# Altium schematic symbol library Terra_Spray.SCHLIB: 22 symbols
Pins are listed as number, name and electrical type; pins without a type are passive.

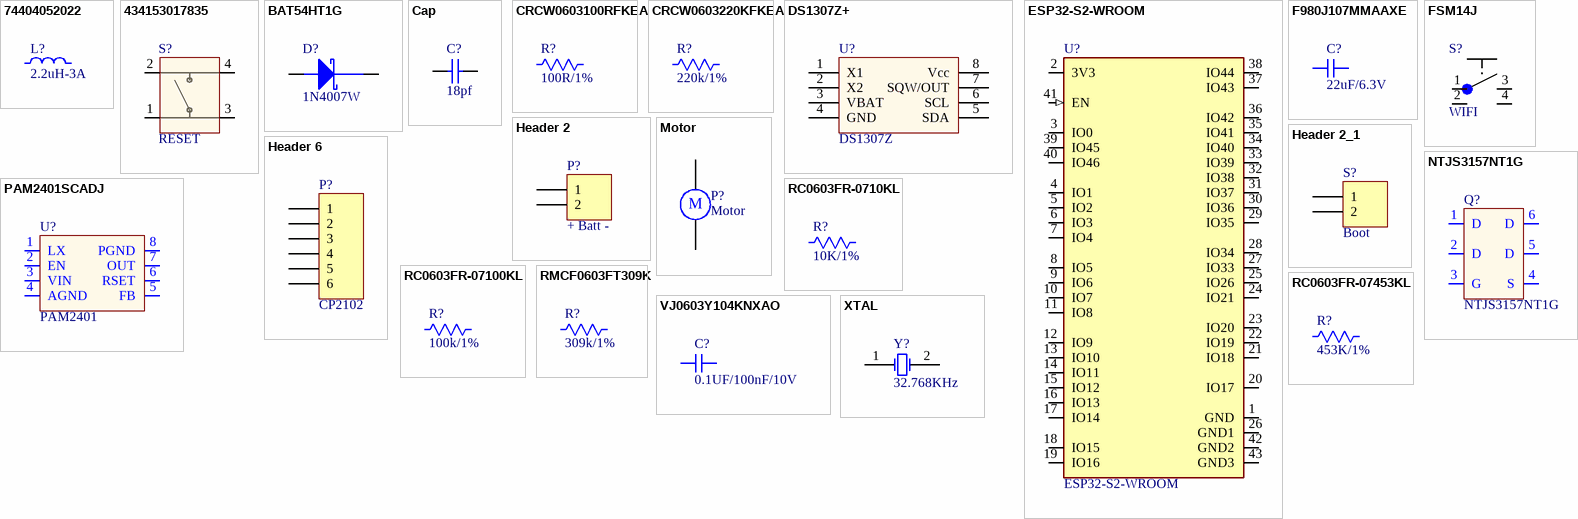
[diagram p0: symbols 74404052022 to XTAL]

## 74404052022
designator L?, comment value 2.2uH-3A  (hidden comment: Inductor)
WURTH ELEKTRONIK - 74404052022 - Power Inductor (SMD), 2.2 µH, 3 A, Semishielded, 3.6 A, WE-LQS Series, 5mm x 5mm x 2mm; Manufacturer 1: Wurth Electronics; Tolerance: 30%; Inductance: 2.2uH; Current Rating: 3A; Saturation Current: 3.6A; DC Resistance (DCR): 31.6mR; Self Resonant Frequency: 88MHz; Test Frequency: 100kHz; Supplier 1: Digi-Key; P/N: 74404052022; Stock 1: 1338; Pricing 1: 1=1.23000, 50=1.13100, 250=1.06400, 500=0.95200, 1000=0.78400 (USD); RoHS: Yes; Mount: Surface Mount; Case/Package: Nonstandard; Min Operating Temperature: -40°C; Max Operating Temperature: 125°C; Packaging: Tape and Reel; Resistor Type: Wirewound; Shielding: Shielded; Length: 0.197inch; Width: 0.197inch; Height - Seated (Max): 0.079inch; ComponentLink1URL: http://www.farnell.com/datasheets/2618696.pdf?src-supplier=Farnell; ComponentLink1Description: http://www.farnell.com/datasheets/2618696.pdf?src-supplier=Farnell; ComponentLink2URL: https://katalog.we-online.de/pbs/datasheet/74404052022.pdf?src-supplier=Digi-Key; ComponentLink2Description: https://katalog.we-online.de/pbs/datasheet/74404052022.pdf?src-supplier=Digi-Key; ComponentLink3URL: http://www.farnell.com/datasheets/2618696.pdf?src-supplier=Newark; ComponentLink3Description: http://www.farnell.com/datasheets/2618696.pdf?src-supplier=Newark; DigiKey: 732-7241-1-ND
footprint INDP5050X20N (Precision Wire Wound Inductor, 2-Leads, Body 5.00x5.00mm, IPC Medium Density)
pins: 1, 2

## 434153017835
designator S?, comment value RESET  (hidden comment: Button)
SWITCH TACTILE SPST-NO 0.05A 12V; Manufacturer: Wurth Electronics; P/N: 434153017835; Mechanical Life: 200000Cycles; Actuator Material: Polymer,Liquid Crystal Polymer; Throw Configuration: SPST; Illumination Type: Non-Illuminated; Operating Force: 350gf; Switch Function: Off-Mom; Switch Travel: 0.15mm; Supplier 1: Digi-Key; Stock 1: 48125; Pricing 1: 1=0.56000, 100=0.47150, 500=0.41400, 1000=0.33350 (USD); RoHS: Yes; Mount: Surface Mount; Contact Material: Steel; Min Operating Temperature: -40°C; Max Operating Temperature: 85°C; Packaging: Tape and Reel; ComponentLink1URL: https://datasheet.ciiva.com/52202/434153017835-52202871.pdf?src-supplier=Digi-Key; ComponentLink1Description: https://datasheet.ciiva.com/52202/434153017835-52202871.pdf?src-supplier=Digi-Key; DigiKey: 732-10143-1-ND
footprint 434153017835
pins: 1, 2, 3, 4

## BAT54HT1G
designator D?, comment 1N4007W
Rectifiers RECTIFIER DIODE 1A 1000V; Part No: CGRM4007-G; ComponentLink1URL: http://www.fairchildsemi.com/ds/BA/BAT54HT1G.pdf; ComponentLink1Description: http://www.fairchildsemi.com/ds/BA/BAT54HT1G.pdf
footprint SOD-123 (SODFL, 2-Leads, Body 1.70x3.70mm, IPC Medium Density)
pins: 1 Cathode, 2 Anode

## Cap
designator C?, comment value 18pf  (hidden comment: Ceramic capcitor)
Capacitor; P/N: 0603N180J500CT; Published: 8-Jun-2000; LatestRevisionDate: 17-Jul-2002; LatestRevisionNote: Re-released for DXP Platform.; PackageReference: RAD-0.3; Publisher: Altium Limited; PackageDescription: Radial Cap, Thru-Hole; 2 Leads; 0.3 in Pin Spacing
simulation model CAP (Capacitor)
signal-integrity model Cap
footprint CAP 0603
pins: 1, 2

## CRCW0603100RFKEA
designator R?, comment value 100R/1%  (hidden comment: Resistor)
RES SMD 100 OHM 1% 1/10W 0603; Manufacturer: Vishay Dale; P/N: CRCW0603100RFKEA; Power Rating: 100mW; Temperature Coefficient: 100ppm/°C; Voltage Rating: 75V; Resistance: 100R; Stock 1: 512087; Pricing 1: 1=0.10000, 10=0.03400, 100=0.01390, 1000=0.00623, 2500=0.00540 (USD); RoHS: Yes; Mount: Surface Mount; Number of Pins: 2; Weight: 7.1E-05oz; Case Code (Metric): 1608; Case Code (Imperial): 0603; Contact Plating: Tin; Min Operating Temperature: -55°C; Max Operating Temperature: 155°C; Composition: Thick Film; Tolerance: 1%; Packaging: Tape and Reel; Termination: SMD/SMT; Voltage Rating (DC): 75V; Military Standard: Not; Package Quantity: 10; Number of Terminations: 2; Max Power Dissipation: 100mW; Features: Automotive AEC-Q200; Length: 1.55mm; Height: 0.02inch; Width: 0.033inch; Depth: 0.85mm; Radiation Hardening: No; REACH SVHC: Unknown; Lead Free: Lead Free; ComponentLink1URL: https://datasheet.ciiva.com/16941/dcrcwe3-16941318.pdf?src-supplier=Avnet+Europe; ComponentLink1Description: https://datasheet.ciiva.com/16941/dcrcwe3-16941318.pdf?src-supplier=Avnet+Europe; ComponentLink2URL: https://datasheet.ciiva.com/26316/fld-crcw-e3-data-en-26316566.pdf?src-supplier=Distrelec; ComponentLink2Description: https://datasheet.ciiva.com/26316/fld-crcw-e3-data-en-26316566.pdf?src-supplier=Distrelec; ComponentLink3URL: https://datasheet.ciiva.com/2465/dcrcwe3-2465543.pdf?src-supplier=Digi-Key; ComponentLink3Description: https://datasheet.ciiva.com/2465/dcrcwe3-2465543.pdf?src-supplier=Digi-Key; ComponentLink4URL: https://datasheet.ciiva.com/2465/dcrcwe3-2465544.pdf?src-supplier=Digi-Key; ComponentLink4Description: https://datasheet.ciiva.com/2465/dcrcwe3-2465544.pdf?src-supplier=Digi-Key; ComponentLink5URL: https://datasheet.ciiva.com/2465/dcrcwe3-2465545.pdf?src-supplier=Digi-Key; ComponentLink5Description: https://datasheet.ciiva.com/2465/dcrcwe3-2465545.pdf?src-supplier=Digi-Key; ComponentLink6URL: https://datasheet.ciiva.com/22673/1697337-22673066.pdf?src-supplier=Element14; ComponentLink6Description: https://datasheet.ciiva.com/22673/1697337-22673066.pdf?src-supplier=Element14; ComponentLink7URL: https://datasheet.ciiva.com/16787/70201119-16787964.pdf?src-supplier=Allied+Electronics; ComponentLink7Description: https://datasheet.ciiva.com/16787/70201119-16787964.pdf?src-supplier=Allied+Electronics; ComponentLink8URL: https://datasheet.ciiva.com/5550/dcrcwe3-109170-5550286.pdf?src-supplier=Mouser; ComponentLink8Description: https://datasheet.ciiva.com/5550/dcrcwe3-109170-5550286.pdf?src-supplier=Mouser; ComponentLink9URL: https://datasheet.ciiva.com/16199/dcrcwe3-16199102.pdf?src-supplier=Future+Electronics; ComponentLink9Description: https://datasheet.ciiva.com/16199/dcrcwe3-16199102.pdf?src-supplier=Future+Electronics; ComponentLink10URL: https://datasheet.ciiva.com/16721/70201119-16721486.pdf?src-supplier=Allied+Electronics; ComponentLink10Description: https://datasheet.ciiva.com/16721/70201119-16721486.pdf?src-supplier=Allied+Electronics; ComponentLink11URL: https://datasheet.ciiva.com/22666/1720486-22666207.pdf?src-supplier=Element14; ComponentLink11Description: https://datasheet.ciiva.com/22666/1720486-22666207.pdf?src-supplier=Element14; Case/Package: 0603; DigiKey: 541-100HCT-ND
footprint RES 0603
pins: 1, 2

## CRCW0603220KFKEA
designator R?, comment value 220k/1%  (hidden comment: Resistor)
RES SMD 220 kohm, 0603, 100 mW,  1%, 75 V; Manufacturer: Vishay; P/N: CRCW0603220KFKEA; Temperature Coefficient: 100ppm/°C; Resistance: 220kR; Power Rating: 100mW; Voltage Rating: 75V; Supplier 1: Digi-Key; Stock 1: 12286; Pricing 1: 1=0.10000, 10=0.03400, 100=0.01390, 1000=0.00623, 2500=0.00540 (USD); RoHS: Yes; Case/Package: 0603; Weight: 7.1E-05oz; Case Code (Imperial): 0603; Case Code (Metric): 1608; Contact Plating: Tin; Min Operating Temperature: -55°C; Max Operating Temperature: 155°C; Tolerance: 1%; Packaging: Tape and Reel; Composition: Thick Film; Voltage Rating (DC): 75V; Termination: SMD/SMT; Package Quantity: 10; Number of Terminations: 2; Max Power Dissipation: 100mW; Military Standard: Not; Features: Automotive AEC-Q200; Length: 1.55mm; Height: 0.45mm; Width: 0.85mm; Depth: 0.85mm; Radiation Hardening: No; Lead Free: Lead Free; REACH SVHC: Unknown; ComponentLink1URL: https://datasheet.ciiva.com/11810/0900766b80d98afc-11810043.pdf?src-supplier=RSComponents; ComponentLink1Description: https://datasheet.ciiva.com/11810/0900766b80d98afc-11810043.pdf?src-supplier=RSComponents; ComponentLink2URL: https://datasheet.ciiva.com/16883/dcrcwe3-16883373.pdf?src-supplier=Avnet+Europe; ComponentLink2Description: https://datasheet.ciiva.com/16883/dcrcwe3-16883373.pdf?src-supplier=Avnet+Europe; ComponentLink3URL: https://datasheet.ciiva.com/3257/dcrcwe3-3257262.pdf?src-supplier=Avnet; ComponentLink3Description: https://datasheet.ciiva.com/3257/dcrcwe3-3257262.pdf?src-supplier=Avnet; ComponentLink4URL: https://datasheet.ciiva.com/7673/1697337-7673294.pdf?src-supplier=Element14; ComponentLink4Description: https://datasheet.ciiva.com/7673/1697337-7673294.pdf?src-supplier=Element14; ComponentLink5URL: https://datasheet.ciiva.com/22870/70201119-22870101.pdf?src-supplier=Allied+Electronics; ComponentLink5Description: https://datasheet.ciiva.com/22870/70201119-22870101.pdf?src-supplier=Allied+Electronics; ComponentLink6URL: https://datasheet.ciiva.com/26317/fld-crcw-e3-data-en-26317173.pdf?src-supplier=Distrelec; ComponentLink6Description: https://datasheet.ciiva.com/26317/fld-crcw-e3-data-en-26317173.pdf?src-supplier=Distrelec; ComponentLink7URL: https://datasheet.ciiva.com/5551/dcrcwe3-109170-5551287.pdf?src-supplier=Mouser; ComponentLink7Description: https://datasheet.ciiva.com/5551/dcrcwe3-109170-5551287.pdf?src-supplier=Mouser; ComponentLink8URL: https://datasheet.ciiva.com/16775/70201119-16775304.pdf?src-supplier=Allied+Electronics; ComponentLink8Description: https://datasheet.ciiva.com/16775/70201119-16775304.pdf?src-supplier=Allied+Electronics; ComponentLink9URL: https://datasheet.ciiva.com/2465/dcrcwe3-2465579.pdf?src-supplier=Digi-Key; ComponentLink9Description: https://datasheet.ciiva.com/2465/dcrcwe3-2465579.pdf?src-supplier=Digi-Key; ComponentLink10URL: https://datasheet.ciiva.com/2465/dcrcwe3-2465580.pdf?src-supplier=Digi-Key; ComponentLink10Description: https://datasheet.ciiva.com/2465/dcrcwe3-2465580.pdf?src-supplier=Digi-Key; ComponentLink11URL: https://datasheet.ciiva.com/2465/dcrcwe3-2465581.pdf?src-supplier=Digi-Key; ComponentLink11Description: https://datasheet.ciiva.com/2465/dcrcwe3-2465581.pdf?src-supplier=Digi-Key; DigiKey: 541-220KHCT-ND
footprint RES 0603
pins: 1, 2

## DS1307Z+
designator U?, comment value DS1307Z  (hidden comment: IC)
SERIAL TIME CHIP 8PIN, SOIC; Manufacturer 1: Maxim; P/N: DS1307Z+; Time Format: HH:MM:SS; Logic Function: Clock; Operating Supply Voltage: 5V; Memory Size: 56B; Max Supply Voltage: 5.5V; Min Supply Voltage: 4.5V; Interface: I2C,Serial,2-Wire; Date Format: YY-MM-DD; Number of Outputs: 1; Frequency: 32.768kHz; Memory Type: RAM; Operating Supply Current: 1.5mA; Supplier 1: Digi-Key; Stock 1: 492; Pricing 1: 1=3.82000, 10=3.43200, 25=3.24480, 100=2.81200, 250=2.66780, 500=2.39380, 1000=2.26500 (USD); RoHS: Yes; Mount: Surface Mount; Case/Package: SOIC; Number of Pins: 8; Contact Plating: Tin,Matte; Weight: 0.019048oz; Min Operating Temperature: 0°C; Max Operating Temperature: 70°C; Packaging: Rail/Tube; Package Quantity: 100; Series: DS1307Z; Voltage: 5V; Length: 5mm; Width: 4mm; Height: 1.5mm; Radiation Hardening: No; RoHS Compliant: Yes; Lead Free: Lead Free; REACH SVHC: No SVHC; ComponentLink1URL: https://datasheet.ciiva.com/20167/170004-da-en-01-20167204.pdf?src-supplier=Rapid+Electronics; ComponentLink1Description: https://datasheet.ciiva.com/20167/170004-da-en-01-20167204.pdf?src-supplier=Rapid+Electronics; ComponentLink2URL: https://datasheet.ciiva.com/1491/ds1307-1491905.pdf?src-supplier=Element14; ComponentLink2Description: https://datasheet.ciiva.com/1491/ds1307-1491905.pdf?src-supplier=Element14; ComponentLink3URL: https://datasheet.ciiva.com/1498/ds1307-1498866.pdf?src-supplier=Farnell; ComponentLink3Description: https://datasheet.ciiva.com/1498/ds1307-1498866.pdf?src-supplier=Farnell; ComponentLink4URL: https://datasheet.ciiva.com/1139/46359-1139142.pdf?src-supplier=Element14; ComponentLink4Description: https://datasheet.ciiva.com/1139/46359-1139142.pdf?src-supplier=Element14; ComponentLink5URL: https://datasheet.ciiva.com/14085/ds1307-14085608.pdf?src-supplier=Digi-Key; ComponentLink5Description: https://datasheet.ciiva.com/14085/ds1307-14085608.pdf?src-supplier=Digi-Key; ComponentLink6URL: https://datasheet.ciiva.com/3304/ds1307-3304457.pdf?src-supplier=Avnet; ComponentLink6Description: https://datasheet.ciiva.com/3304/ds1307-3304457.pdf?src-supplier=Avnet; ComponentLink7URL: https://datasheet.ciiva.com/14577/70127931-14577227.pdf?src-supplier=Allied+Electronics; ComponentLink7Description: https://datasheet.ciiva.com/14577/70127931-14577227.pdf?src-supplier=Allied+Electronics; DigiKey: DS1307Z+-ND
footprint SOIC-8 (SOIC, 8-Leads, Body 4.91x3.90mm, Pitch 1.27mm, IPC Medium Density)
pins: 1 X1, 2 X2, 3 VBAT, 4 GND, 5 SDA, 6 SCL, 7 SQW/OUT, 8 Vcc

## ESP32-S2-WROOM
designator U?, comment value ESP32-S2-WROOM  (hidden comment: ESP32s)
RX TXRX MOD WIFI SURFACE MOUNT; Manufacturer: Espressif Systems; Supplier 1: Digi-Key; P/N: ESP32-S2-WROOM; Stock 1: 899; Pricing 1: 1=1.99000 (USD); RoHS: No; DigiKey: 1965-ESP32-S2-WROOMCT-ND
footprint MODULE_ESP32-S2-WROOM
pins: 1 GND (power), 2 3V3 (power), 3 IO0 (io), 4 IO1 (io), 5 IO2 (io), 6 IO3 (io), 7 IO4 (io), 8 IO5 (io), 9 IO6 (io), 10 IO7 (io), 11 IO8 (io), 12 IO9 (io), 13 IO10 (io), 14 IO11 (io), 15 IO12 (io), 16 IO13 (io), 17 IO14 (io), 18 IO15 (io), 19 IO16 (io), 20 IO17 (io), 21 IO18 (io), 22 IO19 (io), 23 IO20 (io), 24 IO21 (io), 25 IO26 (io), 26 GND1 (power), 27 IO33 (io), 28 IO34 (io), 29 IO35 (io), 30 IO36 (io), 31 IO37 (io), 32 IO38 (io), 33 IO39 (io), 34 IO40 (io), 35 IO41 (io), 36 IO42 (io), 37 IO43 (io), 38 IO44 (io), 39 IO45 (io), 40 IO46 (io), 41 EN (in), 42 GND2 (power), 43 GND3 (power)

## F980J107MMAAXE
designator C?, comment value 22uF/6.3V  (hidden comment: Capacitor)
CAP TANT 100UF 20% 6.3V 0603; Manufacturer: Kyocera AVX; P/N: F980J107MMAAXE; ESR (Equivalent Series Resistance): 10R; Supplier 1: Digi-Key; Stock 1: 61870; Pricing 1: 1=0.67000, 10=0.49100, 100=0.33670, 500=0.26658, 1000=0.22448 (USD); RoHS: Yes; Mount: Surface Mount; Case/Package: 0603; Case Code (Metric): 1608; Case Code (Imperial): 0603; Min Operating Temperature: -55°C; Max Operating Temperature: 125°C; Packaging: Tape and Reel; Capacitance: 100uF; Voltage Rating: 6.3V; Tolerance: 20%; Length: 0.063inch; Width: 0.033inch; Height - Seated (Max): 0.035inch; ComponentLink1URL: http://www.farnell.com/datasheets/2602422.pdf?src-supplier=Farnell; ComponentLink1Description: http://www.farnell.com/datasheets/2602422.pdf?src-supplier=Farnell; ComponentLink2URL: http://datasheets.avx.com/F98.pdf?src-supplier=Digi-Key; ComponentLink2Description: http://datasheets.avx.com/F98.pdf?src-supplier=Digi-Key; DigiKey: 478-9836-1-ND
footprint CAP 0603
pins: 1, 2

## FSM14J
designator S?, comment WIFI
Pushbutton 6x6mm, Actuator Height off PCB, Vertical 9.50mm; Manufacturer Part Number: MJTP1138BTUBE; MF: TE Connectivity; MP: FSM14J; Package: None; Availability: Unavailable; SnapEDA_Link: https://www.snapeda.com/parts/FSM14J/TE%20Connectivity%20ALCOSWITCH%20Switches/view-part/?ref=snap; Price: None; Value: *; Digi-Key Part Number: MJTP1138BTUBE-ND
footprint FSMJ - SMD - Wifi
pins: 1, 2 1, 3 2, 4 2

## Header 2
designator P?, comment + Batt -
Header, 2-Pin; LatestRevisionDate: 17-Jul-2002; LatestRevisionNote: Re-released for DXP Platform.; Publisher: Altium Limited
footprint HDR1X2 (Connector; Header; 2 Position)
signal-integrity model Connector
footprint 2 pin JST 2.5mm
footprint 2 pin 2.5mm - Header
footprint DC Pin 5mm
footprint 2 pin 2.5mm - Header
pins: 1, 2

## Header 2_1
designator S?, comment Boot
Header, 2-Pin; LatestRevisionDate: 17-Jul-2002; LatestRevisionNote: Re-released for DXP Platform.; Publisher: Altium Limited
footprint HDR1X2 (Connector; Header; 2 Position)
signal-integrity model Connector
footprint Switch Replacement
pins: 1, 2

## Header 6
designator P?, comment CP2102
Header, 6-Pin; LatestRevisionDate: 17-Jul-2002; LatestRevisionNote: Re-released for DXP Platform.; Publisher: Altium Limited
signal-integrity model Connector
footprint Header 6x1
pins: 1, 2, 3, 4, 5, 6

## Motor
designator P?
Motor, General Kind; Published: 24-Mar-1999; LatestRevisionDate: 17-Jul-2002; LatestRevisionNote: Re-released for DXP Platform.; PackageReference: RB5-10.5; Publisher: Altium Limited; PackageDescription: Capacitor (Radial); 2 Leads
footprint RB5-10.5 (Capacitor (Radial); 2 Leads)
footprint 2 pin 2mm Header
footprint 2 pin JST 2.5mm
footprint 2 pin 2.5mm - Header
pins: 1, 2
text: M

## NTJS3157NT1G
designator Q?, comment Part No: NTJS3157NT1G  (hidden comment: Mosfet)
N-Channel 20V 3.2A (Ta) 1W (Ta) Surface Mount SC-88/SC70-6/SOT-363
footprint SOT-363 (SOT23, 6-Leads, Body 2.00x2.10mm, Pitch 0.65mm, IPC Medium Density)
pins: 1 D, 2 D, 3 G, 4 S, 5 D, 6 D

## PAM2401SCADJ
designator U?, comment value PAM2401  (hidden comment: Boost IC)
IC REG BOOST ADJ 3A SYNC 8MSOP; Manufacturer 1: Diodes; P/N: PAM2401SCADJ; Number of Outputs: 1; Min Input Voltage: 900mV; Max Input Voltage: 4.75V; Min Output Voltage: 2.5V; Max Output Voltage: 5V; Switching Frequency: 1MHz; Synchronous Rectifier: Yes; Output Type: Adjustable; Output Configuration: Positive; Operating Supply Current: 1uA; Supplier 1: Digi-Key; Stock 1: 42065; Pricing 1: 1=0.99000, 10=0.88500, 25=0.84000, 100=0.64500, 250=0.57000, 500=0.54000, 1000=0.42000 (USD); RoHS: Yes; Mount: Surface Mount; Case/Package: MSOP; Number of Pins: 8; Weight: 0.004938oz; Min Operating Temperature: -40°C; Max Operating Temperature: 85°C; Topology: Boost; Packaging: Tape and Reel; Output Current: 3A; Package Quantity: 2500; Min Supply Voltage: 900mV; Lead Free: Lead Free; ComponentLink1URL: http://www.mouser.com/ds/2/115/PAM2401-347378.pdf?src-supplier=Mouser; ComponentLink1Description: http://www.mouser.com/ds/2/115/PAM2401-347378.pdf?src-supplier=Mouser; ComponentLink2URL: https://www.diodes.com/assets/Datasheets/PAM2401.pdf?src-supplier=Digi-Key; ComponentLink2Description: https://www.diodes.com/assets/Datasheets/PAM2401.pdf?src-supplier=Digi-Key; ComponentLink3URL: http://diodes.com/datasheets/PAM2401.pdf?src-supplier=Avnet; ComponentLink3Description: http://diodes.com/datasheets/PAM2401.pdf?src-supplier=Avnet; DigiKey: PAM2401SCADJDICT-ND
footprint 8-TSSOP, 8-MSOP (TSOP, 8-Leads, Body 3.00x3.00mm, Pitch 0.65mm, IPC Medium Density)
footprint 8-TSSOP, 8-MSOP (TSOP, 8-Leads, Body 3.00x3.00mm, Pitch 0.65mm, IPC Medium Density)
pins: 1 LX, 2 EN, 3 VIN, 4 AGND, 5 FB, 6 RSET, 7 OUT, 8 PGND

## RC0603FR-0710KL
designator R?, comment value 10K/1%  (hidden comment: Resistor)
RES SMD 10K OHM 1% 1/10W 0603; Manufacturer: Yageo; P/N: RC0603FR-0710KL; Resistance: 10kR; Power Rating: 100mW; Temperature Coefficient: 100ppm/°C; Voltage Rating: 75V; Voltage Rating (DC): 50V; Supplier 1: Digi-Key; Stock 1: 55833360; Pricing 1: 1=0.10000, 10=0.02300, 100=0.00940, 1000=0.00421, 2500=0.00366 (USD); RoHS: Yes; Case/Package: 0603; Number of Pins: 2; Weight: 7.1E-05oz; Case Code (Imperial): 0603; Case Code (Metric): 1608; Min Operating Temperature: -55°C; Max Operating Temperature: 155°C; Packaging: Tape and Reel; Tolerance: 1%; Composition: Thick Film; Termination: SMD/SMT; Military Standard: Not; Length: 1.6mm; Height: 0.45mm; Depth: 0.8mm; Width: 0.8mm; Lead Pitch: 0.3mm; Lead Free: Lead Free; REACH SVHC: No SVHC; ComponentLink1URL: https://datasheet.ciiva.com/7660/38590-7660789.pdf?src-supplier=Element14; ComponentLink1Description: https://datasheet.ciiva.com/7660/38590-7660789.pdf?src-supplier=Element14; ComponentLink2URL: https://datasheet.ciiva.com/15189/getdatasheetpartid-409289-15189591.pdf?src-supplier=Verical; ComponentLink2Description: https://datasheet.ciiva.com/15189/getdatasheetpartid-409289-15189591.pdf?src-supplier=Verical; ComponentLink3URL: https://datasheet.ciiva.com/46440/1868787-46440891.pdf?src-supplier=Element14; ComponentLink3Description: https://datasheet.ciiva.com/46440/1868787-46440891.pdf?src-supplier=Element14; ComponentLink4URL: https://datasheet.ciiva.com/7983/443971-7983596.pdf?src-supplier=Element14; ComponentLink4Description: https://datasheet.ciiva.com/7983/443971-7983596.pdf?src-supplier=Element14; ComponentLink5URL: https://datasheet.ciiva.com/7746/1738695-7746239.pdf?src-supplier=Element14; ComponentLink5Description: https://datasheet.ciiva.com/7746/1738695-7746239.pdf?src-supplier=Element14; ComponentLink6URL: https://datasheet.ciiva.com/22747/443971-22747519.pdf?src-supplier=Element14; ComponentLink6Description: https://datasheet.ciiva.com/22747/443971-22747519.pdf?src-supplier=Element14; DigiKey: 311-10.0KHRDKR-ND
footprint RES 0603
pins: 1, 2

## RC0603FR-07100KL
designator R?, comment value 100k/1%  (hidden comment: Resistor)
RES SMD 100K Ohm 1% 0603; Manufacturer: Yageo; P/N: RC0603FR-07100KL; Resistance: 100kR; Power Rating: 100mW; Temperature Coefficient: 100ppm/°C; Voltage Rating: 50V; Working Voltage: 75V; Supplier 1: Digi-Key; Stock 1: 34090397; Pricing 1: 1=0.10000, 10=0.02300, 100=0.00940, 1000=0.00421, 2500=0.00366 (USD); RoHS: Yes; Case/Package: 0603; Number of Pins: 2; Case Code (Imperial): 0603; Case Code (Metric): 1608; Min Operating Temperature: -55°C; Max Operating Temperature: 155°C; Packaging: Tape and Reel; Tolerance: 1%; Composition: Thick Film; Termination: SMD/SMT; Military Standard: Not; Number of Terminations: 2; Voltage Rating (DC): 50V; Length: 1.6mm; Height: 0.45mm; Width: 0.8mm; Depth: 0.8mm; Lead Free: Lead Free; REACH SVHC: No SVHC; ComponentLink1URL: https://datasheet.ciiva.com/11808/0900766b80f96399-11808107.pdf?src-supplier=RSComponents; ComponentLink1Description: https://datasheet.ciiva.com/11808/0900766b80f96399-11808107.pdf?src-supplier=RSComponents; ComponentLink2URL: https://datasheet.ciiva.com/46440/1868787-46440889.pdf?src-supplier=Element14; ComponentLink2Description: https://datasheet.ciiva.com/46440/1868787-46440889.pdf?src-supplier=Element14; ComponentLink3URL: https://datasheet.ciiva.com/7746/1738695-7746235.pdf?src-supplier=Element14; ComponentLink3Description: https://datasheet.ciiva.com/7746/1738695-7746235.pdf?src-supplier=Element14; ComponentLink4URL: https://datasheet.ciiva.com/7983/443971-7983593.pdf?src-supplier=Element14; ComponentLink4Description: https://datasheet.ciiva.com/7983/443971-7983593.pdf?src-supplier=Element14; ComponentLink5URL: https://datasheet.ciiva.com/7746/1738695-7746234.pdf?src-supplier=Element14; ComponentLink5Description: https://datasheet.ciiva.com/7746/1738695-7746234.pdf?src-supplier=Element14; ComponentLink6URL: https://datasheet.ciiva.com/22747/443971-22747516.pdf?src-supplier=Element14; ComponentLink6Description: https://datasheet.ciiva.com/22747/443971-22747516.pdf?src-supplier=Element14; DigiKey: 311-100KHRCT-ND
footprint RES 0603
pins: 1, 2

## RC0603FR-07453KL
designator R?, comment value 453K/1%  (hidden comment: Resistor)
RES SMD 453K Ohm 1%   0603 1/10W 100ppm/C Molded SMD Paper T/R; Manufacturer 1: Yageo; P/N: RC0603FR-07453KL; Power Rating: 100mW; Resistance: 453kR; Voltage Rating: 50V; Temperature Coefficient: 100ppm/°C; Supplier 1: Digi-Key; Stock 1: 163886; Pricing 1: 1=0.10000, 10=0.02200, 100=0.00900, 1000=0.00405, 2500=0.00352 (USD); RoHS: Yes; Case/Package: 0603; Case Code (Imperial): 0603; Case Code (Metric): 1608; Contact Plating: Tin,Matte; Min Operating Temperature: -55°C; Max Operating Temperature: 155°C; Packaging: Tape and Reel; Tolerance: 1%; Termination: SMD/SMT; Composition: Thick Film; Military Standard: Not; Voltage Rating (DC): 50V; Length: 1.6mm; Height: 0.45mm; Width: 0.8mm; Depth: 0.8mm; Lead Free: Lead Free; ComponentLink1URL: https://datasheet.ciiva.com/28390/pyu-rc0603-51-rohs-l-4-28390650.pdf?src-supplier=Avnet+Europe; ComponentLink1Description: https://datasheet.ciiva.com/28390/pyu-rc0603-51-rohs-l-4-28390650.pdf?src-supplier=Avnet+Europe; ComponentLink2URL: https://datasheet.ciiva.com/8885/pyu-rc0603-51-rohs-l-4-8885677.pdf?src-supplier=Avnet; ComponentLink2Description: https://datasheet.ciiva.com/8885/pyu-rc0603-51-rohs-l-4-8885677.pdf?src-supplier=Avnet; DigiKey: 311-453KHRCT-ND
footprint RES 0603
pins: 1, 2

## RMCF0603FT309K
designator R?, comment value 309k/1%  (hidden comment: Resistor)
RES SMD 309K OHM 1% 1/10W 0603; Manufacturer 1: Stackpole Electronics; P/N: RMCF0603FT309K; Resistance: 309kR; Power Rating: 100mW; Temperature Coefficient: 100ppm/°C; Supplier 1: Digi-Key; Stock 1: 24020; Pricing 1: 1=0.10000, 10=0.01500, 100=0.00630, 1000=0.00281, 2500=0.00244 (USD); RoHS: Yes; Mount: Surface Mount; Case/Package: 0603; Case Code (Imperial): 0603; Contact Plating: Tin,Matte; Case Code (Metric): 1608; Min Operating Temperature: -55°C; Max Operating Temperature: 155°C; Tolerance: 1%; Packaging: Tape and Reel; Max Power Dissipation: 100mW; Features: Automotive AEC-Q200; Composition: Thick Film; Number of Terminations: 2; Military Standard: Not; Length: 0.061inch; Height: 0.022inch; Width: 0.031inch; Depth: 0.8mm; Radiation Hardening: No; Lead Free: Lead Free; ComponentLink1URL: https://www.verical.com/server-webapp/html/getDatasheet?partID=717647&src-supplier=Verical; ComponentLink1Description: https://www.verical.com/server-webapp/html/getDatasheet?partID=717647&src-supplier=Verical; ComponentLink2URL: https://www.seielect.com/catalog/SEI-Packaging.pdf?src-supplier=Digi-Key; ComponentLink2Description: https://www.seielect.com/catalog/SEI-Packaging.pdf?src-supplier=Digi-Key; ComponentLink3URL: https://www.seielect.com/Catalog/SEI-RMCF_RMCP.pdf?src-supplier=Digi-Key; ComponentLink3Description: https://www.seielect.com/Catalog/SEI-RMCF_RMCP.pdf?src-supplier=Digi-Key; ComponentLink4URL: http://components.arrow.com/part/dataview/40961354S7722066N1174?src-supplier=Arrow; ComponentLink4Description: http://components.arrow.com/part/dataview/40961354S7722066N1174?src-supplier=Arrow; ComponentLink5URL: https://www.seielect.com/catalog/SEI-RMCF_RMCP.pdf?src-supplier=Avnet; ComponentLink5Description: https://www.seielect.com/catalog/SEI-RMCF_RMCP.pdf?src-supplier=Avnet; ComponentLink6URL: http://www.seielect.com/Catalog/SEI-RMC.pdf?src-supplier=Future+Electronics; ComponentLink6Description: http://www.seielect.com/Catalog/SEI-RMC.pdf?src-supplier=Future+Electronics; DigiKey: RMCF0603FT309KCT-ND
footprint RES 0603
pins: 1, 2

## VJ0603Y104KNXAO
designator C?, comment value 0.1UF/100nF/10V  (hidden comment: Capacitor)
CAP CER 0.1UF 25V X7R 0603; Manufacturer: Vishay Vitramon; P/N: VJ0603Y104KNXAO; Capacitance: 100nF; Tolerance: 10%; Supplier 1: Digi-Key; Stock 1: 194; Pricing 1: 1=0.85000, 10=0.52100, 100=0.32360 (USD); RoHS: Yes; Mount: Surface Mount; Case/Package: 0603; Weight: 7.1E-05oz; Case Code (Metric): 1608; Case Code (Imperial): 0603; Min Operating Temperature: -55°C; Max Operating Temperature: 125°C; Package Quantity: 1; Voltage Rating: 25V; Packaging: Tape and Reel; Dielectric: X7R; Voltage Rating (DC): 25V; Termination: SMD/SMT; Voltage: 25V; Length: 1.6mm; Height: 0.92mm; Width: 0.031inch; Depth: 0.8mm; Thickness: 0.036inch; Radiation Hardening: No; REACH SVHC: Unknown; ComponentLink1URL: https://datasheet.ciiva.com/11785/0900766b8104796c-11785946.pdf?src-supplier=RSComponents; ComponentLink1Description: https://datasheet.ciiva.com/11785/0900766b8104796c-11785946.pdf?src-supplier=RSComponents; ComponentLink2URL: https://datasheet.ciiva.com/148/nonmagneticepoxybond-148278.pdf?src-supplier=Digi-Key; ComponentLink2Description: https://datasheet.ciiva.com/148/nonmagneticepoxybond-148278.pdf?src-supplier=Digi-Key; ComponentLink3URL: https://datasheet.ciiva.com/148/nonmagneticepoxybond-148279.pdf?src-supplier=Digi-Key; ComponentLink3Description: https://datasheet.ciiva.com/148/nonmagneticepoxybond-148279.pdf?src-supplier=Digi-Key; ComponentLink4URL: https://datasheet.ciiva.com/148/nonmagneticepoxybond-148280.pdf?src-supplier=Digi-Key; ComponentLink4Description: https://datasheet.ciiva.com/148/nonmagneticepoxybond-148280.pdf?src-supplier=Digi-Key; ComponentLink5URL: https://datasheet.ciiva.com/46417/1805046-46417805.pdf?src-supplier=Element14; ComponentLink5Description: https://datasheet.ciiva.com/46417/1805046-46417805.pdf?src-supplier=Element14; ComponentLink6URL: https://datasheet.ciiva.com/46417/1805046-46417806.pdf?src-supplier=Element14; ComponentLink6Description: https://datasheet.ciiva.com/46417/1805046-46417806.pdf?src-supplier=Element14; DigiKey: 720-1235-1-ND
footprint CAP 0603
pins: 1, 2

## XTAL
designator Y?, comment 32.768KHz
Crystal Oscillator; P/N: X308032768KGB2SC; Published: 8-Jun-2000; LatestRevisionDate: 17-Jul-2002; LatestRevisionNote: Re-released for DXP Platform.; PackageReference: R38; Publisher: Altium Limited; PackageDescription: Crystal, Thru-Hole; 2 Leads; Body 3.1 x 8.2 mm (Dia.xH)
simulation model XTAL (Spice Subcircuit)
footprint 32.728Khz
pins: 1 OSC1, 2 OSC2